# EAGLE library part TF30 (library Laipac technologie)
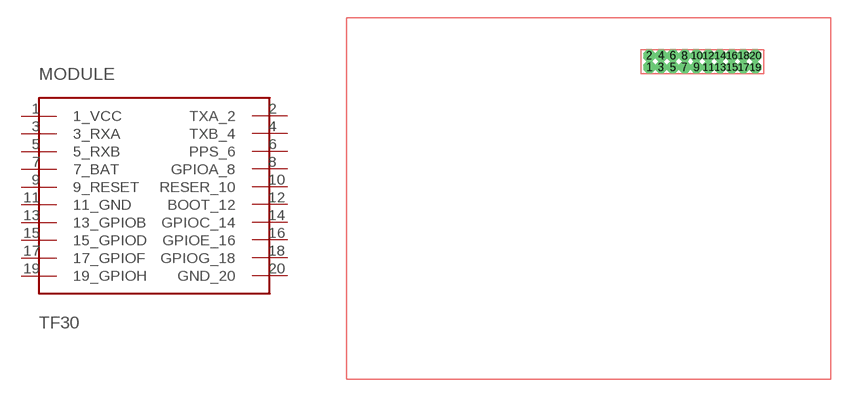
[diagram p0: symbol with the pads of TF30; footprint TF30]

Designator prefix MODULE

## TF30  [TF30]
1  1_VCC  pwr
2  TXA_2
3  3_RXA
4  TXB_4
5  5_RXB
6  PPS_6
7  7_BAT
8  GPIOA_8
9  9_RESET
10  RESER_10
11  11_GND
12  BOOT_12
13  13_GPIOB
14  GPIOC_14
15  15_GPIOD
16  GPIOE_16
17  17_GPIOF
18  GPIOG_18
19  19_GPIOH
20  GND_20  pwr

## Footprint TF30 (pad centres in mm)
drill 0.5 pad 0.406 octagon: 1 25.22,27.53; 2 25.22,28.52; 3 26.22,27.53; 4 26.23,28.52; 5 27.21,27.53; 6 27.22,28.52; 7 28.22,27.53; 8 28.22,28.51; 9 29.23,27.53; 10 29.23,28.52; 11 30.22,27.53; 12 30.22,28.52; 13 31.23,27.53; 14 31.22,28.52; 15 32.22,27.53; 16 32.22,28.52; 17 33.22,27.53; 18 33.22,28.52; 19 34.22,27.52; 20 34.22,28.52